# Altium integrated library Diode - Rectifier.IntLib: 777 symbols (part 9 of 12)
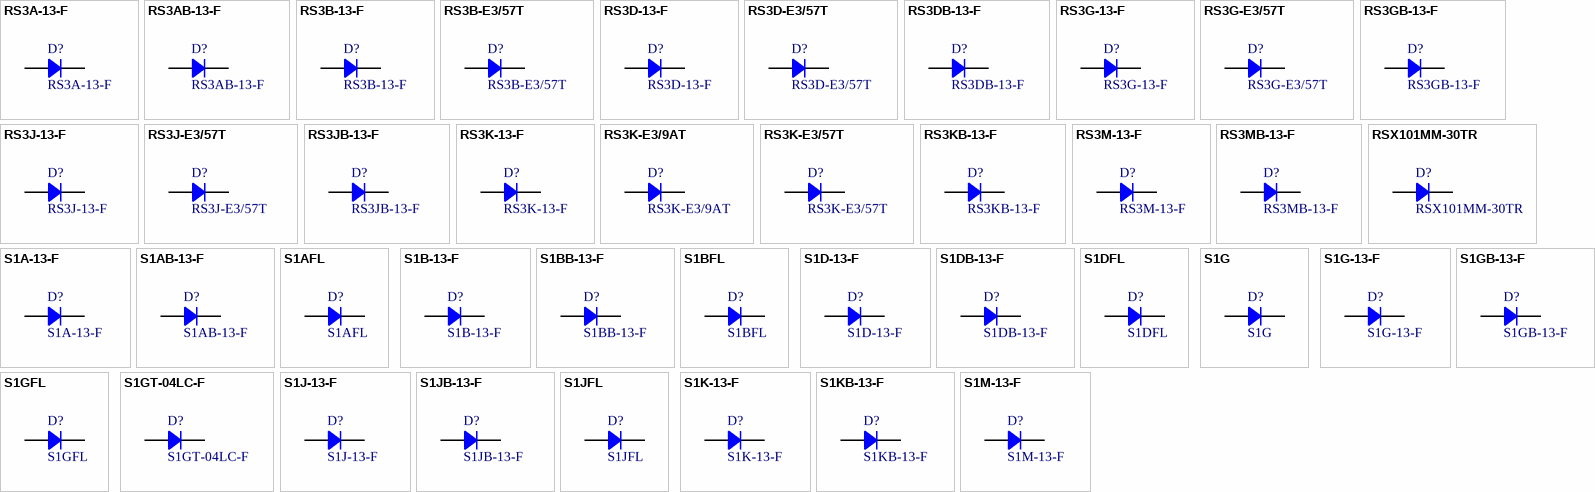
[diagram p27: symbols RS3A-13-F to S1M-13-F]

## S1K-13-F
designator D?
DIODE GEN PURP 800V 1A SMA; Manufacturer: Diodes Incorporated; Type: Standard; Current Reverse Leakage @ Vr: 5uA @ 800V; Reverse Recovery Time (trr): 3us; Voltage Forward (Vf): 1.1V @ 1A; Part Number: S1K-13-F; PartId: 16346; Supplier 1: Digi-Key; Supplier Part Number 1: S1K-FDITR-ND; ComponentLink1Description: Datasheet; ComponentLink1URL: http://www.diodes.com/_files/datasheets/ds16003.pdf; ComponentLink2Description: Digi-Key Listing; ComponentLink2URL: https://www.digikey.com/product-detail/en/diodes-incorporated/S1K-13-F/S1K-FDITR-ND/814415; Junction Operating Temperature: -65C ~ 150C; Price: 0.056; Device Package: DO-214AC, SMA; Voltage DC Reverse (Vr): 800V; Current Rectified: 1A
footprint DO214AC SMA
pins: 1, 2

## S1KB-13-F
designator D?
DIODE GEN PURP 800V 1A SMB; Manufacturer: Diodes Incorporated; Type: Standard; Current Reverse Leakage @ Vr: 5uA @ 800V; Reverse Recovery Time (trr): 3us; Voltage Forward (Vf): 1.1V @ 1A; Part Number: S1KB-13-F; PartId: 16273; Supplier 1: Digi-Key; Supplier Part Number 1: S1KB-FDITR-ND; ComponentLink1Description: Datasheet; ComponentLink1URL: http://www.diodes.com/_files/datasheets/ds16003.pdf; ComponentLink2Description: Digi-Key Listing; ComponentLink2URL: https://www.digikey.com/product-detail/en/diodes-incorporated/S1KB-13-F/S1KB-FDITR-ND/749978; Junction Operating Temperature: -65C ~ 150C; Price: 0.08; Device Package: DO-214AA, SMB; Voltage DC Reverse (Vr): 800V; Current Rectified: 1A
footprint DO214AA SMB
pins: 1, 2

## S1M-13-F
designator D?
DIODE GEN PURP 1KV 1A SMA; Manufacturer: Diodes Incorporated; Type: Standard; Current Reverse Leakage @ Vr: 5uA @ 1000V; Reverse Recovery Time (trr): 3us; Voltage DC Reverse (Vr): 1000V (1kV); Voltage Forward (Vf): 1.1V @ 1A; Part Number: S1M-13-F; PartId: 16315; Supplier 1: Digi-Key; Supplier Part Number 1: S1M-FDITR-ND; ComponentLink1Description: Datasheet; ComponentLink1URL: http://www.diodes.com/_files/datasheets/ds16003.pdf; ComponentLink2Description: Digi-Key Listing; ComponentLink2URL: https://www.digikey.com/product-detail/en/diodes-incorporated/S1M-13-F/S1M-FDITR-ND/804883; Junction Operating Temperature: -65C ~ 150C; Price: 0.036; Device Package: DO-214AC, SMA; Current Rectified: 1A
footprint DO214AC SMA
pins: 1, 2

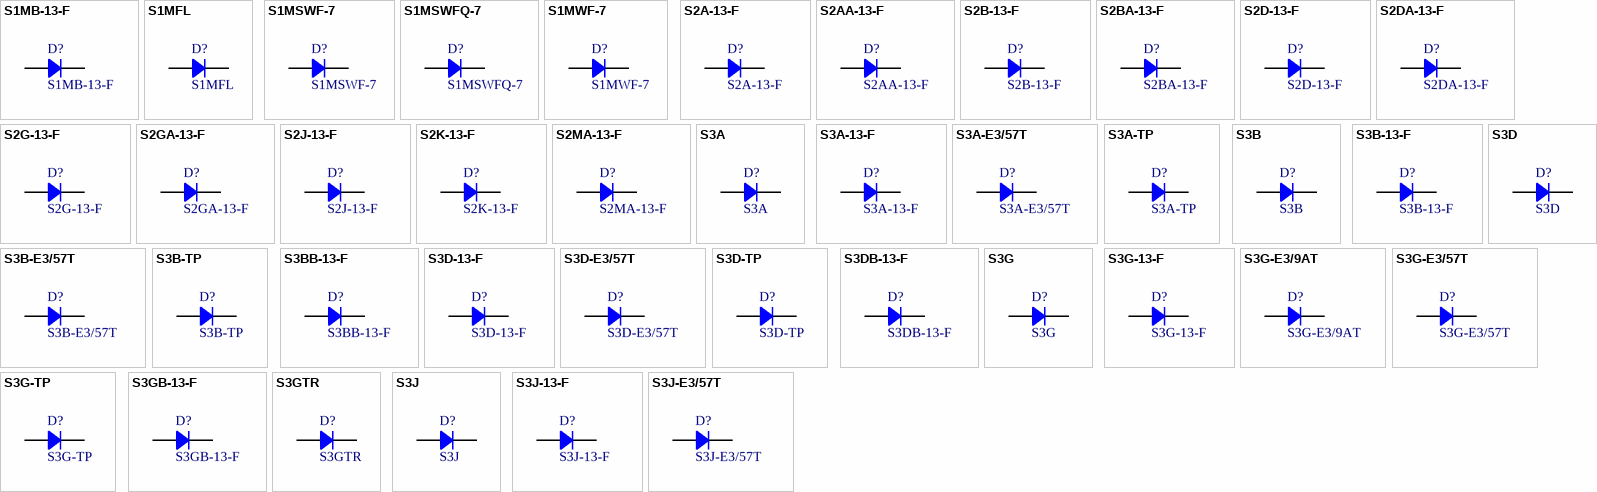
[diagram p13: symbols S1MB-13-F to S3J-E3/57T]

## S1MB-13-F
designator D?
DIODE GEN PURP 1KV 1A SMB; Manufacturer: Diodes Incorporated; Type: Standard; Current Reverse Leakage @ Vr: 5uA @ 1000V; Reverse Recovery Time (trr): 3us; Voltage DC Reverse (Vr): 1000V (1kV); Voltage Forward (Vf): 1.1V @ 1A; Part Number: S1MB-13-F; PartId: 16239; Supplier 1: Digi-Key; Supplier Part Number 1: S1MB-FDITR-ND; ComponentLink1Description: Datasheet; ComponentLink1URL: http://www.diodes.com/_files/datasheets/ds16003.pdf; ComponentLink2Description: Digi-Key Listing; ComponentLink2URL: https://www.digikey.com/product-detail/en/diodes-incorporated/S1MB-13-F/S1MB-FDITR-ND/765421; Junction Operating Temperature: -65C ~ 150C; Price: 0.066; Device Package: DO-214AA, SMB; Current Rectified: 1A
footprint DO214AA SMB
pins: 1, 2

## S1MFL
designator D?
DIODE GP 1000V 1A SOD123F; Manufacturer: Fairchild/ON Semiconductor; Type: Standard; Current Reverse Leakage @ Vr: 1uA @ 1000V; Reverse Recovery Time (trr): 2us; Voltage DC Reverse (Vr): 1000V (1kV); Voltage Forward (Vf): 1.1V @ 1A; Part Number: S1MFL; PartId: 29266; Supplier 1: Digi-Key; Supplier Part Number 1: S1MFLCT-ND; ComponentLink1Description: Datasheet; ComponentLink1URL: https://www.fairchildsemi.com/datasheets/S1/S1AFL.pdf; ComponentLink2Description: Digi-Key Listing; ComponentLink2URL: https://www.digikey.com/product-detail/en/fairchild-on-semiconductor/S1MFL/S1MFLCT-ND/5305090; Junction Operating Temperature: -50C ~ 150C; Price: 0.38; Device Package: SOD-123F; Current Rectified: 1A
footprint SOD123F
pins: 1, 2

## S1MSWF-7
designator D?
DIODE RECT STD 1000V 1A SOD123F; Manufacturer: Diodes Incorporated; Type: Standard; Current Reverse Leakage @ Vr: 10uA @ 1000V; Reverse Recovery Time (trr): 1us; Voltage DC Reverse (Vr): 1000V (1kV); Voltage Forward (Vf): 1.1V @ 1A; Part Number: S1MSWF-7; PartId: 29324; Supplier 1: Digi-Key; Supplier Part Number 1: S1MSWF-7DICT-ND; ComponentLink1Description: Datasheet; ComponentLink1URL: http://www.diodes.com/_files/datasheets/S1MSWF.pdf; ComponentLink2Description: Digi-Key Listing; ComponentLink2URL: https://www.digikey.com/product-detail/en/diodes-incorporated/S1MSWF-7/S1MSWF-7DICT-ND/5731843; Junction Operating Temperature: -55C ~ 150C; Price: 0.38; Device Package: SOD-123F; Current Rectified: 1A
footprint SOD123F
pins: 1, 2

## S1MSWFQ-7
designator D?
DIODE RECT STD 1000V 1A SOD123F; Manufacturer: Diodes Incorporated; Type: Standard; Current Reverse Leakage @ Vr: 10uA @ 1000V; Reverse Recovery Time (trr): 1us; Voltage DC Reverse (Vr): 1000V (1kV); Voltage Forward (Vf): 1.1V @ 1A; Part Number: S1MSWFQ-7; PartId: 29240; Supplier 1: Digi-Key; Supplier Part Number 1: S1MSWFQ-7DICT-ND; ComponentLink1Description: Datasheet; ComponentLink2Description: Digi-Key Listing; ComponentLink2URL: https://www.digikey.com/product-detail/en/diodes-incorporated/S1MSWFQ-7/S1MSWFQ-7DICT-ND/5731844; Junction Operating Temperature: -55C ~ 150C; Price: 0.39; Device Package: SOD-123F; Current Rectified: 1A
footprint SOD123F
pins: 1, 2

## S1MWF-7
designator D?
RECT GP 1000V 1A SOD123F; Manufacturer: Diodes Incorporated; Type: Standard; Current Reverse Leakage @ Vr: 5uA @ 1000V; Reverse Recovery Time (trr): 3us; Voltage DC Reverse (Vr): 1000V (1kV); Voltage Forward (Vf): 1.1V @ 1A; Part Number: S1MWF-7; PartId: 29260; Supplier 1: Digi-Key; Supplier Part Number 1: S1MWF-7DICT-ND; ComponentLink1Description: Datasheet; ComponentLink1URL: http://diodes.com/_files/datasheets/S1MWF.pdf; ComponentLink2Description: Digi-Key Listing; ComponentLink2URL: https://www.digikey.com/product-detail/en/diodes-incorporated/S1MWF-7/S1MWF-7DICT-ND/5223254; Junction Operating Temperature: -55C ~ 150C; Price: 0.36; Device Package: SOD-123F; Current Rectified: 1A
footprint SOD123F
pins: 1, 2

## S2A-13-F
designator D?
DIODE GEN PURP 50V 1.5A SMB; Manufacturer: Diodes Incorporated; Type: Standard; Current Reverse Leakage @ Vr: 5uA @ 50V; Voltage Forward (Vf): 1.15V @ 1.5A; Part Number: S2A-13-F; PartId: 16270; Supplier 1: Digi-Key; Supplier Part Number 1: S2A-FDITR-ND; ComponentLink1Description: Datasheet; ComponentLink1URL: http://www.diodes.com/_files/datasheets/ds16004.pdf; ComponentLink2Description: Digi-Key Listing; ComponentLink2URL: https://www.digikey.com/product-detail/en/diodes-incorporated/S2A-13-F/S2A-FDITR-ND/814429; Junction Operating Temperature: -65C ~ 150C; Price: 0.068; Device Package: DO-214AA, SMB; Voltage DC Reverse (Vr): 50V; Current Rectified: 1.5A
footprint DO214AA SMB
pins: 1, 2

## S2AA-13-F
designator D?
DIODE GEN PURP 50V 1.5A SMA; Manufacturer: Diodes Incorporated; Type: Standard; Current Reverse Leakage @ Vr: 5uA @ 50V; Voltage Forward (Vf): 1.15V @ 1.5A; Part Number: S2AA-13-F; PartId: 16349; Supplier 1: Digi-Key; Supplier Part Number 1: S2AA-FDITR-ND; ComponentLink1Description: Datasheet; ComponentLink1URL: http://www.diodes.com/_files/datasheets/ds16004.pdf; ComponentLink2Description: Digi-Key Listing; ComponentLink2URL: https://www.digikey.com/product-detail/en/diodes-incorporated/S2AA-13-F/S2AA-FDITR-ND/814425; Junction Operating Temperature: -65C ~ 150C; Price: 0.072; Device Package: DO-214AC, SMA; Voltage DC Reverse (Vr): 50V; Current Rectified: 1.5A
footprint DO214AC SMA
pins: 1, 2

## S2B-13-F
designator D?
DIODE GEN PURP 100V 1.5A SMB; Manufacturer: Diodes Incorporated; Type: Standard; Current Reverse Leakage @ Vr: 5uA @ 100V; Voltage Forward (Vf): 1.15V @ 1.5A; Part Number: S2B-13-F; PartId: 16271; Supplier 1: Digi-Key; Supplier Part Number 1: S2B-FDITR-ND; ComponentLink1Description: Datasheet; ComponentLink1URL: http://www.diodes.com/_files/datasheets/ds16004.pdf; ComponentLink2Description: Digi-Key Listing; ComponentLink2URL: https://www.digikey.com/product-detail/en/diodes-incorporated/S2B-13-F/S2B-FDITR-ND/749979; Junction Operating Temperature: -65C ~ 150C; Price: 0.08; Device Package: DO-214AA, SMB; Voltage DC Reverse (Vr): 100V; Current Rectified: 1.5A
footprint DO214AA SMB
pins: 1, 2

## S2BA-13-F
designator D?
DIODE GEN PURP 100V 1.5A SMA; Manufacturer: Diodes Incorporated; Type: Standard; Current Reverse Leakage @ Vr: 5uA @ 100V; Voltage Forward (Vf): 1.15V @ 1.5A; Part Number: S2BA-13-F; PartId: 16352; Supplier 1: Digi-Key; Supplier Part Number 1: S2BA-FDITR-ND; ComponentLink1Description: Datasheet; ComponentLink1URL: http://www.diodes.com/_files/datasheets/ds16004.pdf; ComponentLink2Description: Digi-Key Listing; ComponentLink2URL: https://www.digikey.com/product-detail/en/diodes-incorporated/S2BA-13-F/S2BA-FDITR-ND/814428; Junction Operating Temperature: -65C ~ 150C; Price: 0.085; Device Package: DO-214AC, SMA; Voltage DC Reverse (Vr): 100V; Current Rectified: 1.5A
footprint DO214AC SMA
pins: 1, 2

## S2D-13-F
designator D?
DIODE GEN PURP 200V 1.5A SMB; Manufacturer: Diodes Incorporated; Type: Standard; Current Reverse Leakage @ Vr: 5uA @ 200V; Voltage Forward (Vf): 1.15V @ 1.5A; Part Number: S2D-13-F; PartId: 16272; Supplier 1: Digi-Key; Supplier Part Number 1: S2D-FDITR-ND; ComponentLink1Description: Datasheet; ComponentLink1URL: http://www.diodes.com/_files/datasheets/ds16004.pdf; ComponentLink2Description: Digi-Key Listing; ComponentLink2URL: https://www.digikey.com/product-detail/en/diodes-incorporated/S2D-13-F/S2D-FDITR-ND/814427; Junction Operating Temperature: -65C ~ 150C; Price: 0.08; Device Package: DO-214AA, SMB; Voltage DC Reverse (Vr): 200V; Current Rectified: 1.5A
footprint DO214AA SMB
pins: 1, 2

## S2DA-13-F
designator D?
DIODE GEN PURP 200V 1.5A SMA; Manufacturer: Diodes Incorporated; Type: Standard; Current Reverse Leakage @ Vr: 5uA @ 200V; Voltage Forward (Vf): 1.15V @ 1.5A; Part Number: S2DA-13-F; PartId: 16362; Supplier 1: Digi-Key; Supplier Part Number 1: S2DA-FDITR-ND; ComponentLink1Description: Datasheet; ComponentLink1URL: http://www.diodes.com/_files/datasheets/ds16004.pdf; ComponentLink2Description: Digi-Key Listing; ComponentLink2URL: https://www.digikey.com/product-detail/en/diodes-incorporated/S2DA-13-F/S2DA-FDITR-ND/768875; Junction Operating Temperature: -65C ~ 150C; Price: 0.085; Device Package: DO-214AC, SMA; Voltage DC Reverse (Vr): 200V; Current Rectified: 1.5A
footprint DO214AC SMA
pins: 1, 2

## S2G-13-F
designator D?
DIODE GEN PURP 400V 1.5A SMB; Manufacturer: Diodes Incorporated; Type: Standard; Current Reverse Leakage @ Vr: 5uA @ 400V; Voltage Forward (Vf): 1.15V @ 1.5A; Part Number: S2G-13-F; PartId: 16268; Supplier 1: Digi-Key; Supplier Part Number 1: S2G-FDITR-ND; ComponentLink1Description: Datasheet; ComponentLink1URL: http://www.diodes.com/_files/datasheets/ds16004.pdf; ComponentLink2Description: Digi-Key Listing; ComponentLink2URL: https://www.digikey.com/product-detail/en/diodes-incorporated/S2G-13-F/S2G-FDITR-ND/814423; Junction Operating Temperature: -65C ~ 150C; Price: 0.06; Device Package: DO-214AA, SMB; Voltage DC Reverse (Vr): 400V; Current Rectified: 1.5A
footprint DO214AA SMB
pins: 1, 2

## S2GA-13-F
designator D?
DIODE GEN PURP 400V 1.5A SMA; Manufacturer: Diodes Incorporated; Type: Standard; Current Reverse Leakage @ Vr: 5uA @ 400V; Voltage Forward (Vf): 1.15V @ 1.5A; Part Number: S2GA-13-F; PartId: 16353; Supplier 1: Digi-Key; Supplier Part Number 1: S2GA-FDITR-ND; ComponentLink1Description: Datasheet; ComponentLink1URL: http://www.diodes.com/_files/datasheets/ds16004.pdf; ComponentLink2Description: Digi-Key Listing; ComponentLink2URL: https://www.digikey.com/product-detail/en/diodes-incorporated/S2GA-13-F/S2GA-FDITR-ND/814426; Junction Operating Temperature: -65C ~ 150C; Price: 0.085; Device Package: DO-214AC, SMA; Voltage DC Reverse (Vr): 400V; Current Rectified: 1.5A
footprint DO214AC SMA
pins: 1, 2

## S2J-13-F
designator D?
DIODE GEN PURP 600V 1.5A SMB; Manufacturer: Diodes Incorporated; Type: Standard; Current Reverse Leakage @ Vr: 5uA @ 600V; Voltage Forward (Vf): 1.15V @ 1.5A; Part Number: S2J-13-F; PartId: 16298; Supplier 1: Digi-Key; Supplier Part Number 1: S2J-FDITR-ND; ComponentLink1Description: Datasheet; ComponentLink1URL: http://www.diodes.com/_files/datasheets/ds16004.pdf; ComponentLink2Description: Digi-Key Listing; ComponentLink2URL: https://www.digikey.com/product-detail/en/diodes-incorporated/S2J-13-F/S2J-FDITR-ND/814418; Junction Operating Temperature: -65C ~ 150C; Price: 0.08; Device Package: DO-214AA, SMB; Voltage DC Reverse (Vr): 600V; Current Rectified: 1.5A
footprint DO214AA SMB
pins: 1, 2

## S2K-13-F
designator D?
DIODE GEN PURP 800V 1.5A SMB; Manufacturer: Diodes Incorporated; Type: Surface Mount; Current Reverse Leakage @ Vr: 5uA @ 800V; Voltage Forward (Vf): 1.15V @ 1.5A; Part Number: S2K-13-F; PartId: 7124; Supplier 1: Digi-Key; Supplier Part Number 1: S2K-FDITR-ND; ComponentLink1Description: Datasheet; ComponentLink1URL: http://www.diodes.com/_files/datasheets/ds16004.pdf; ComponentLink2Description: Digi-Key Listing; ComponentLink2URL: http://www.digikey.ca/product-detail/en/S2K-13-F/S2K-FDITR-ND/814421; Junction Operating Temperature: -65C ~ 150C; Price: 0.086; Device Package: DO-214AA, SMB; Reverse Recovery Time (trr): -; Voltage DC Reverse (Vr): 800V; Current Rectified: 1.5A
footprint DO214AA SMB
pins: 1, 2

## S2MA-13-F
designator D?
DIODE GEN PURP 1KV 1.5A SMA; Manufacturer: Diodes Incorporated; Type: Standard; Current Reverse Leakage @ Vr: 5uA @ 1000V; Voltage DC Reverse (Vr): 1000V (1kV); Voltage Forward (Vf): 1.15V @ 1.5A; Part Number: S2MA-13-F; PartId: 16348; Supplier 1: Digi-Key; Supplier Part Number 1: S2MA-FDITR-ND; ComponentLink1Description: Datasheet; ComponentLink1URL: http://www.diodes.com/_files/datasheets/ds16004.pdf; ComponentLink2Description: Digi-Key Listing; ComponentLink2URL: https://www.digikey.com/product-detail/en/diodes-incorporated/S2MA-13-F/S2MA-FDITR-ND/814420; Junction Operating Temperature: -65C ~ 150C; Price: 0.072; Device Package: DO-214AC, SMA; Current Rectified: 1.5A
footprint DO214AC SMA
pins: 1, 2

## S3A
designator D?
DIODE GEN PURP 50V 3A SMC; Manufacturer: Fairchild/ON Semiconductor; Type: Standard; Current Reverse Leakage @ Vr: 5uA @ 50V; Reverse Recovery Time (trr): 2.5us; Voltage Forward (Vf): 1.2V @ 3A; Part Number: S3A; PartId: 27716; Supplier 1: Digi-Key; Supplier Part Number 1: S3AFSCT-ND; ComponentLink1Description: Datasheet; ComponentLink1URL: https://www.fairchildsemi.com/datasheets/S3/S3A.pdf; ComponentLink2Description: Digi-Key Listing; ComponentLink2URL: https://www.digikey.com/product-detail/en/fairchild-on-semiconductor/S3A/S3AFSCT-ND/2053162; Junction Operating Temperature: -55C ~ 150C; Price: 0.37; Device Package: DO-214AB, SMC; Voltage DC Reverse (Vr): 50V; Current Rectified: 3A
footprint ST DO214AB SMC
pins: 1, 2

## S3A-13-F
designator D?
DIODE GEN PURP 50V 3A SMC; Manufacturer: Diodes Incorporated; Type: Standard; Current Reverse Leakage @ Vr: 10uA @ 50V; Voltage Forward (Vf): 1.15V @ 3A; Part Number: S3A-13-F; PartId: 16214; Supplier 1: Digi-Key; Supplier Part Number 1: S3A-FDITR-ND; ComponentLink1Description: Datasheet; ComponentLink1URL: http://www.diodes.com/_files/datasheets/ds16005.pdf; ComponentLink2Description: Digi-Key Listing; ComponentLink2URL: https://www.digikey.com/product-detail/en/diodes-incorporated/S3A-13-F/S3A-FDITR-ND/725028; Junction Operating Temperature: -65C ~ 150C; Price: 0.132; Device Package: DO-214AB, SMC; Voltage DC Reverse (Vr): 50V; Current Rectified: 3A
footprint DO214AB SMC
pins: 1, 2

## S3A-E3/57T
designator D?
DIODE GEN PURP 50V 3A DO214AB; Manufacturer: Vishay Semiconductor Diodes Division; Type: Standard; Current Reverse Leakage @ Vr: 10uA @ 50V; Reverse Recovery Time (trr): 2.5us; Voltage Forward (Vf): 1.15V @ 2.5A; Part Number: S3A-E3/57T; PartId: 27897; Supplier 1: Digi-Key; Supplier Part Number 1: S3A-E3/57TGICT-ND; ComponentLink1Description: Datasheet; ComponentLink1URL: http://www.vishay.com/docs/88713/s3a.pdf; ComponentLink2Description: Digi-Key Listing; ComponentLink2URL: https://www.digikey.com/product-detail/en/vishay-semiconductor-diodes-division/S3A-E3-57T/S3A-E3-57TGICT-ND/3025914; Junction Operating Temperature: -55C ~ 150C; Price: 0.41; Device Package: DO-214AB, SMC; Voltage DC Reverse (Vr): 50V; Current Rectified: 3A
footprint ST DO214AB SMC
pins: 1, 2

## S3A-TP
designator D?
DIODE GEN PURP 50V 3A DO214AB; Manufacturer: Micro Commercial Co; Type: Standard; Current Reverse Leakage @ Vr: 10uA @ 50V; Voltage Forward (Vf): 1.2V @ 3A; Part Number: S3A-TP; PartId: 27837; Supplier 1: Digi-Key; Supplier Part Number 1: S3A-TPMSCT-ND; ComponentLink1Description: Datasheet; ComponentLink1URL: http://www.mccsemi.com/up_pdf/S3A-S3M(DO-214AB).PDF; ComponentLink2Description: Digi-Key Listing; ComponentLink2URL: https://www.digikey.com/product-detail/en/micro-commercial-co/S3A-TP/S3A-TPMSCT-ND/773718; Junction Operating Temperature: -55C ~ 150C; Price: 0.52; Device Package: DO-214AB, SMC; Voltage DC Reverse (Vr): 50V; Current Rectified: 3A
footprint ST DO214AB SMC
pins: 1, 2

## S3B
designator D?
DIODE GEN PURP 100V 3A SMC; Manufacturer: Fairchild/ON Semiconductor; Type: Standard; Current Reverse Leakage @ Vr: 5uA @ 100V; Reverse Recovery Time (trr): 2.5us; Voltage Forward (Vf): 1.2V @ 3A; Part Number: S3B; PartId: 27715; Supplier 1: Digi-Key; Supplier Part Number 1: S3BFSCT-ND; ComponentLink1Description: Datasheet; ComponentLink1URL: https://www.fairchildsemi.com/datasheets/S3/S3A.pdf; ComponentLink2Description: Digi-Key Listing; ComponentLink2URL: https://www.digikey.com/product-detail/en/fairchild-on-semiconductor/S3B/S3BFSCT-ND/1626270; Junction Operating Temperature: -55C ~ 150C; Price: 0.37; Device Package: DO-214AB, SMC; Voltage DC Reverse (Vr): 100V; Current Rectified: 3A
footprint ST DO214AB SMC
pins: 1, 2

## S3B-13-F
designator D?
DIODE GEN PURP 100V 3A SMC; Manufacturer: Diodes Incorporated; Type: Standard; Current Reverse Leakage @ Vr: 10uA @ 100V; Voltage Forward (Vf): 1.15V @ 3A; Part Number: S3B-13-F; PartId: 27681; Supplier 1: Digi-Key; Supplier Part Number 1: S3B-FDICT-ND; ComponentLink1Description: Datasheet; ComponentLink1URL: http://www.diodes.com/_files/datasheets/ds16005.pdf; ComponentLink2Description: Digi-Key Listing; ComponentLink2URL: https://www.digikey.com/product-detail/en/diodes-incorporated/S3B-13-F/S3B-FDICT-ND/750035; Junction Operating Temperature: -65C ~ 150C; Price: 0.48; Device Package: DO-214AB, SMC; Voltage DC Reverse (Vr): 100V; Current Rectified: 3A
footprint ST DO214AB SMC
pins: 1, 2

## S3B-E3/57T
designator D?
DIODE GEN PURP 100V 3A DO214AB; Manufacturer: Vishay Semiconductor Diodes Division; Type: Standard; Current Reverse Leakage @ Vr: 10uA @ 100V; Reverse Recovery Time (trr): 2.5us; Voltage Forward (Vf): 1.15V @ 2.5A; Part Number: S3B-E3/57T; PartId: 27772; Supplier 1: Digi-Key; Supplier Part Number 1: S3B-E3/57TGICT-ND; ComponentLink1Description: Datasheet; ComponentLink1URL: http://www.vishay.com/docs/88713/s3a.pdf; ComponentLink2Description: Digi-Key Listing; ComponentLink2URL: https://www.digikey.com/product-detail/en/vishay-semiconductor-diodes-division/S3B-E3-57T/S3B-E3-57TGICT-ND/2356596; Junction Operating Temperature: -55C ~ 150C; Price: 0.41; Device Package: DO-214AB, SMC; Voltage DC Reverse (Vr): 100V; Current Rectified: 3A
footprint ST DO214AB SMC
pins: 1, 2

## S3B-TP
designator D?
DIODE GEN PURP 100V 3A DO214AB; Manufacturer: Micro Commercial Co; Type: Standard; Current Reverse Leakage @ Vr: 10uA @ 100V; Voltage Forward (Vf): 1.2V @ 3A; Part Number: S3B-TP; PartId: 27764; Supplier 1: Digi-Key; Supplier Part Number 1: S3B-TPMSCT-ND; ComponentLink1Description: Datasheet; ComponentLink1URL: http://www.mccsemi.com/up_pdf/S3A-S3M(DO-214AB).PDF; ComponentLink2Description: Digi-Key Listing; ComponentLink2URL: https://www.digikey.com/product-detail/en/micro-commercial-co/S3B-TP/S3B-TPMSCT-ND/773719; Junction Operating Temperature: -55C ~ 150C; Price: 0.52; Device Package: DO-214AB, SMC; Voltage DC Reverse (Vr): 100V; Current Rectified: 3A
footprint ST DO214AB SMC
pins: 1, 2

## S3BB-13-F
designator D?
DIODE GEN PURP 100V 3A SMB; Manufacturer: Diodes Incorporated; Type: Standard; Current Reverse Leakage @ Vr: 10uA @ 100V; Voltage Forward (Vf): 1.15V @ 3A; Part Number: S3BB-13-F; PartId: 16256; Supplier 1: Digi-Key; Supplier Part Number 1: S3BB-FDITR-ND; ComponentLink1Description: Datasheet; ComponentLink1URL: http://www.diodes.com/_files/datasheets/ds16005.pdf; ComponentLink2Description: Digi-Key Listing; ComponentLink2URL: https://www.digikey.com/product-detail/en/diodes-incorporated/S3BB-13-F/S3BB-FDITR-ND/749982; Junction Operating Temperature: -65C ~ 150C; Price: 0.1395; Device Package: DO-214AA, SMB; Voltage DC Reverse (Vr): 100V; Current Rectified: 3A
footprint DO214AA SMB
pins: 1, 2

## S3D
designator D?
DIODE GEN PURP 200V 3A SMC; Manufacturer: Fairchild/ON Semiconductor; Type: Standard; Current Reverse Leakage @ Vr: 5uA @ 200V; Reverse Recovery Time (trr): 2.5us; Voltage Forward (Vf): 1.2V @ 3A; Part Number: S3D; PartId: 27713; Supplier 1: Digi-Key; Supplier Part Number 1: S3DFSCT-ND; ComponentLink1Description: Datasheet; ComponentLink1URL: https://www.fairchildsemi.com/datasheets/S3/S3D.pdf; ComponentLink2Description: Digi-Key Listing; ComponentLink2URL: https://www.digikey.com/product-detail/en/fairchild-on-semiconductor/S3D/S3DFSCT-ND/2094443; Junction Operating Temperature: -55C ~ 150C; Price: 0.37; Device Package: DO-214AB, SMC; Voltage DC Reverse (Vr): 200V; Current Rectified: 3A
footprint ST DO214AB SMC
pins: 1, 2

## S3D-13-F
designator D?
DIODE GEN PURP 200V 3A SMC; Manufacturer: Diodes Incorporated; Type: Standard; Current Reverse Leakage @ Vr: 10uA @ 200V; Voltage Forward (Vf): 1.15V @ 3A; Part Number: S3D-13-F; PartId: 16223; Supplier 1: Digi-Key; Supplier Part Number 1: S3D-FDITR-ND; ComponentLink1Description: Datasheet; ComponentLink1URL: http://www.diodes.com/_files/datasheets/ds16005.pdf; ComponentLink2Description: Digi-Key Listing; ComponentLink2URL: https://www.digikey.com/product-detail/en/diodes-incorporated/S3D-13-F/S3D-FDITR-ND/768792; Junction Operating Temperature: -65C ~ 150C; Price: 0.186; Device Package: DO-214AB, SMC; Voltage DC Reverse (Vr): 200V; Current Rectified: 3A
footprint DO214AB SMC
pins: 1, 2

## S3D-E3/57T
designator D?
DIODE GEN PURP 200V 3A DO214AB; Manufacturer: Vishay Semiconductor Diodes Division; Type: Standard; Current Reverse Leakage @ Vr: 10uA @ 200V; Reverse Recovery Time (trr): 2.5us; Voltage Forward (Vf): 1.15V @ 2.5A; Part Number: S3D-E3/57T; PartId: 27771; Supplier 1: Digi-Key; Supplier Part Number 1: S3D-E3/57TGICT-ND; ComponentLink1Description: Datasheet; ComponentLink1URL: http://www.vishay.com/docs/88713/s3a.pdf; ComponentLink2Description: Digi-Key Listing; ComponentLink2URL: https://www.digikey.com/product-detail/en/vishay-semiconductor-diodes-division/S3D-E3-57T/S3D-E3-57TGICT-ND/1091608; Junction Operating Temperature: -55C ~ 150C; Price: 0.41; Device Package: DO-214AB, SMC; Voltage DC Reverse (Vr): 200V; Current Rectified: 3A
footprint ST DO214AB SMC
pins: 1, 2

## S3D-TP
designator D?
DIODE GEN PURP 200V 3A DO214AB; Manufacturer: Micro Commercial Co; Type: Standard; Current Reverse Leakage @ Vr: 10uA @ 200V; Voltage Forward (Vf): 1.2V @ 3A; Part Number: S3D-TP; PartId: 27792; Supplier 1: Digi-Key; Supplier Part Number 1: S3D-TPMSCT-ND; ComponentLink1Description: Datasheet; ComponentLink1URL: http://www.mccsemi.com/up_pdf/S3A-S3M(DO-214AB).PDF; ComponentLink2Description: Digi-Key Listing; ComponentLink2URL: https://www.digikey.com/product-detail/en/micro-commercial-co/S3D-TP/S3D-TPMSCT-ND/773720; Junction Operating Temperature: -55C ~ 150C; Price: 0.52; Device Package: DO-214AB, SMC; Voltage DC Reverse (Vr): 200V; Current Rectified: 3A
footprint ST DO214AB SMC
pins: 1, 2

## S3DB-13-F
designator D?
DIODE GEN PURP 200V 3A SMB; Manufacturer: Diodes Incorporated; Type: Standard; Current Reverse Leakage @ Vr: 10uA @ 200V; Voltage Forward (Vf): 1.15V @ 3A; Part Number: S3DB-13-F; PartId: 16285; Supplier 1: Digi-Key; Supplier Part Number 1: S3DB-FDITR-ND; ComponentLink1Description: Datasheet; ComponentLink1URL: http://www.diodes.com/_files/datasheets/ds16005.pdf; ComponentLink2Description: Digi-Key Listing; ComponentLink2URL: https://www.digikey.com/product-detail/en/diodes-incorporated/S3DB-13-F/S3DB-FDITR-ND/749983; Junction Operating Temperature: -65C ~ 150C; Price: 0.132; Device Package: DO-214AA, SMB; Voltage DC Reverse (Vr): 200V; Current Rectified: 3A
footprint DO214AA SMB
pins: 1, 2

## S3G
designator D?
DIODE GEN PURP 400V 3A SMC; Manufacturer: Fairchild/ON Semiconductor; Type: Standard; Current Reverse Leakage @ Vr: 5uA @ 400V; Reverse Recovery Time (trr): 2.5us; Voltage Forward (Vf): 1.2V @ 3A; Part Number: S3G; PartId: 27717; Supplier 1: Digi-Key; Supplier Part Number 1: S3GFSCT-ND; ComponentLink1Description: Datasheet; ComponentLink1URL: https://www.fairchildsemi.com/datasheets/S3/S3A.pdf; ComponentLink2Description: Digi-Key Listing; ComponentLink2URL: https://www.digikey.com/product-detail/en/fairchild-on-semiconductor/S3G/S3GFSCT-ND/2053163; Junction Operating Temperature: -55C ~ 150C; Price: 0.35; Device Package: DO-214AB, SMC; Voltage DC Reverse (Vr): 400V; Current Rectified: 3A
footprint ST DO214AB SMC
pins: 1, 2

## S3G-13-F
designator D?
DIODE GEN PURP 400V 3A SMC; Manufacturer: Diodes Incorporated; Type: Surface Mount; Current Reverse Leakage @ Vr: 10uA @ 400V; Voltage Forward (Vf): 1.15V @ 3A; Part Number: S3G-13-F; PartId: 7161; Supplier 1: Digi-Key; Supplier Part Number 1: S3G-FDITR-ND; ComponentLink1Description: Datasheet; ComponentLink1URL: http://www.diodes.com/_files/datasheets/ds16005.pdf; ComponentLink2Description: Digi-Key Listing; ComponentLink2URL: http://www.digikey.ca/product-detail/en/S3G-13-F/S3G-FDITR-ND/814579; Junction Operating Temperature: -65C ~ 150C; Price: 0.142; Device Package: DO-214AB, SMC; Reverse Recovery Time (trr): -; Voltage DC Reverse (Vr): 400V; Current Rectified: 3A
footprint DO214AB SMC
pins: 1, 2

## S3G-E3/9AT
designator D?
DIODE GEN PURP 400V 3A DO214AB; Manufacturer: Vishay Semiconductor Diodes Division; Type: Standard; Current Reverse Leakage @ Vr: 10uA @ 400V; Reverse Recovery Time (trr): 2.5us; Voltage Forward (Vf): 1.15V @ 2.5A; Part Number: S3G-E3/9AT; PartId: 27807; Supplier 1: Digi-Key; Supplier Part Number 1: S3G-E3/9ATGICT-ND; ComponentLink1Description: Datasheet; ComponentLink1URL: http://www.vishay.com/docs/88713/s3a.pdf; ComponentLink2Description: Digi-Key Listing; ComponentLink2URL: https://www.digikey.com/product-detail/en/vishay-semiconductor-diodes-division/S3G-E3-9AT/S3G-E3-9ATGICT-ND/3711852; Junction Operating Temperature: -55C ~ 150C; Price: 0.38; Device Package: DO-214AB, SMC; Voltage DC Reverse (Vr): 400V; Current Rectified: 3A
footprint ST DO214AB SMC
pins: 1, 2

## S3G-E3/57T
designator D?
DIODE GEN PURP 400V 3A DO214AB; Manufacturer: Vishay Semiconductor Diodes Division; Type: Standard; Current Reverse Leakage @ Vr: 10uA @ 400V; Reverse Recovery Time (trr): 2.5us; Voltage Forward (Vf): 1.15V @ 2.5A; Part Number: S3G-E3/57T; PartId: 27726; Supplier 1: Digi-Key; Supplier Part Number 1: S3G-E3/57TGICT-ND; ComponentLink1Description: Datasheet; ComponentLink1URL: http://www.vishay.com/docs/88713/s3a.pdf; ComponentLink2Description: Digi-Key Listing; ComponentLink2URL: https://www.digikey.com/product-detail/en/vishay-semiconductor-diodes-division/S3G-E3-57T/S3G-E3-57TGICT-ND/1091609; Junction Operating Temperature: -55C ~ 150C; Price: 0.38; Device Package: DO-214AB, SMC; Voltage DC Reverse (Vr): 400V; Current Rectified: 3A
footprint ST DO214AB SMC
pins: 1, 2

## S3G-TP
designator D?
DIODE GEN PURP 400V 3A DO214AB; Manufacturer: Micro Commercial Co; Type: Standard; Current Reverse Leakage @ Vr: 10uA @ 400V; Voltage Forward (Vf): 1.2V @ 3A; Part Number: S3G-TP; PartId: 27718; Supplier 1: Digi-Key; Supplier Part Number 1: S3G-TPMSCT-ND; ComponentLink1Description: Datasheet; ComponentLink1URL: http://www.mccsemi.com/up_pdf/S3A-S3M(DO-214AB).PDF; ComponentLink2Description: Digi-Key Listing; ComponentLink2URL: https://www.digikey.com/product-detail/en/micro-commercial-co/S3G-TP/S3G-TPMSCT-ND/773721; Junction Operating Temperature: -55C ~ 150C; Price: 0.52; Device Package: DO-214AB, SMC; Voltage DC Reverse (Vr): 400V; Current Rectified: 3A
footprint ST DO214AB SMC
pins: 1, 2

## S3GB-13-F
designator D?
DIODE GEN PURP 400V 3A SMB; Manufacturer: Diodes Incorporated; Type: Standard; Current Reverse Leakage @ Vr: 10uA @ 400V; Voltage Forward (Vf): 1.15V @ 3A; Part Number: S3GB-13-F; PartId: 16250; Supplier 1: Digi-Key; Supplier Part Number 1: S3GB-FDITR-ND; ComponentLink1Description: Datasheet; ComponentLink1URL: http://www.diodes.com/_files/datasheets/ds16005.pdf; ComponentLink2Description: Digi-Key Listing; ComponentLink2URL: https://www.digikey.com/product-detail/en/diodes-incorporated/S3GB-13-F/S3GB-FDITR-ND/750066; Junction Operating Temperature: -65C ~ 150C; Price: 0.132; Device Package: DO-214AA, SMB; Voltage DC Reverse (Vr): 400V; Current Rectified: 3A
footprint DO214AA SMB
pins: 1, 2

## S3GTR
designator D?
DIODE GEN PURP 400V 3A SMC; Manufacturer: SMC Diode Solutions; Type: Standard; Current Reverse Leakage @ Vr: 5uA @ 400V; Voltage Forward (Vf): 1.1V @ 3A; Part Number: S3GTR; PartId: 27806; Supplier 1: Digi-Key; Supplier Part Number 1: 1655-1511-1-ND; ComponentLink1Description: Datasheet; ComponentLink1URL: http://www.smc-diodes.com/propdf/S3A-S3M%20N0564%20REV.B.pdf; ComponentLink2Description: Digi-Key Listing; ComponentLink2URL: https://www.digikey.com/product-detail/en/smc-diode-solutions/S3GTR/1655-1511-1-ND/6022956; Junction Operating Temperature: -65C ~ 175C; Price: 0.22; Device Package: DO-214AB, SMC; Voltage DC Reverse (Vr): 400V; Current Rectified: 3A
footprint ST DO214AB SMC
pins: 1, 2

## S3J
designator D?
DIODE GEN PURP 600V 3A SMC; Manufacturer: Fairchild/ON Semiconductor; Type: Standard; Current Reverse Leakage @ Vr: 5uA @ 600V; Reverse Recovery Time (trr): 2.5us; Voltage Forward (Vf): 1.2V @ 3A; Part Number: S3J; PartId: 27714; Supplier 1: Digi-Key; Supplier Part Number 1: S3JFSCT-ND; ComponentLink1Description: Datasheet; ComponentLink1URL: https://www.fairchildsemi.com/datasheets/S3/S3A.pdf; ComponentLink2Description: Digi-Key Listing; ComponentLink2URL: https://www.digikey.com/product-detail/en/fairchild-on-semiconductor/S3J/S3JFSCT-ND/2053164; Junction Operating Temperature: -55C ~ 150C; Price: 0.37; Device Package: DO-214AB, SMC; Voltage DC Reverse (Vr): 600V; Current Rectified: 3A
footprint ST DO214AB SMC
pins: 1, 2

## S3J-13-F
designator D?
DIODE GEN PURP 600V 3A SMC; Manufacturer: Diodes Incorporated; Type: Standard; Current Reverse Leakage @ Vr: 10uA @ 600V; Voltage Forward (Vf): 1.15V @ 3A; Part Number: S3J-13-F; PartId: 16212; Supplier 1: Digi-Key; Supplier Part Number 1: S3J-FDITR-ND; ComponentLink1Description: Datasheet; ComponentLink1URL: http://www.diodes.com/_files/datasheets/ds16005.pdf; ComponentLink2Description: Digi-Key Listing; ComponentLink2URL: https://www.digikey.com/product-detail/en/diodes-incorporated/S3J-13-F/S3J-FDITR-ND/724964; Junction Operating Temperature: -65C ~ 150C; Price: 0.099; Device Package: DO-214AB, SMC; Voltage DC Reverse (Vr): 600V; Current Rectified: 3A
footprint DO214AB SMC
pins: 1, 2

## S3J-E3/57T
designator D?
DIODE GEN PURP 600V 3A DO214AB; Manufacturer: Vishay Semiconductor Diodes Division; Type: Standard; Current Reverse Leakage @ Vr: 10uA @ 600V; Reverse Recovery Time (trr): 2.5us; Voltage Forward (Vf): 1.15V @ 2.5A; Part Number: S3J-E3/57T; PartId: 27813; Supplier 1: Digi-Key; Supplier Part Number 1: S3J-E3/57TGICT-ND; ComponentLink1Description: Datasheet; ComponentLink1URL: http://www.vishay.com/docs/88713/s3a.pdf; ComponentLink2Description: Digi-Key Listing; ComponentLink2URL: https://www.digikey.com/product-detail/en/vishay-semiconductor-diodes-division/S3J-E3-57T/S3J-E3-57TGICT-ND/1091610; Junction Operating Temperature: -55C ~ 150C; Price: 0.41; Device Package: DO-214AB, SMC; Voltage DC Reverse (Vr): 600V; Current Rectified: 3A
footprint ST DO214AB SMC
pins: 1, 2

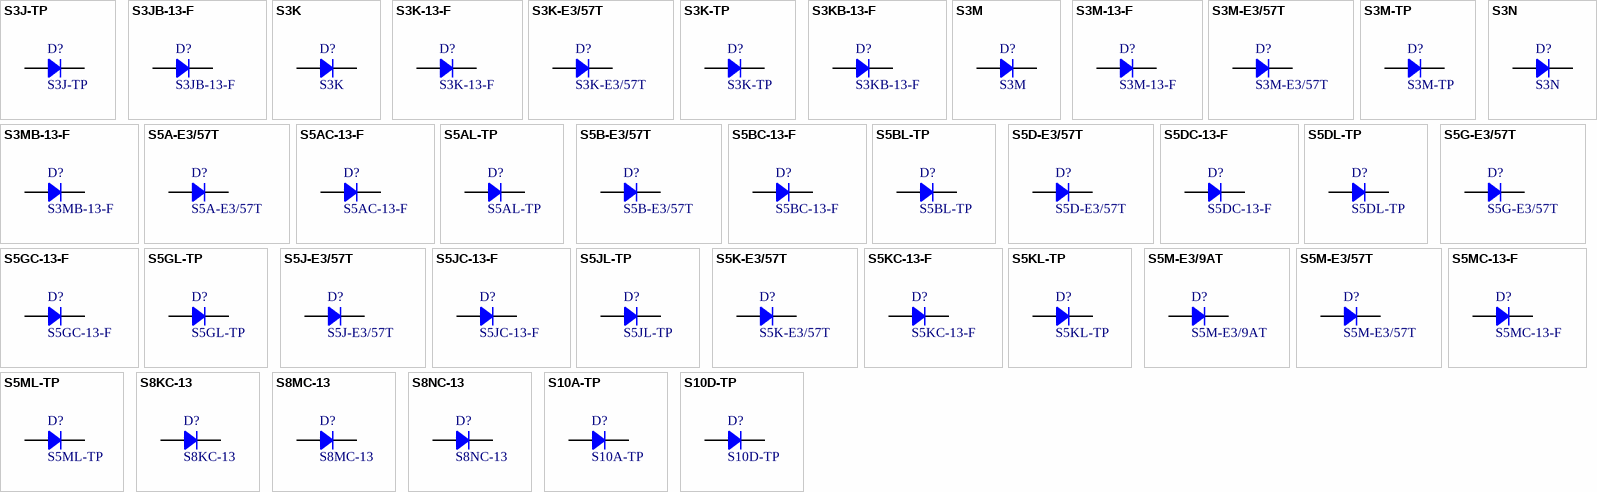
[diagram p14: symbols S3J-TP to S10D-TP]

## S3J-TP
designator D?
DIODE GEN PURP 600V 3A DO214AB; Manufacturer: Micro Commercial Co; Type: Standard; Current Reverse Leakage @ Vr: 10uA @ 600V; Voltage Forward (Vf): 1.2V @ 3A; Part Number: S3J-TP; PartId: 27836; Supplier 1: Digi-Key; Supplier Part Number 1: S3J-TPMSCT-ND; ComponentLink1Description: Datasheet; ComponentLink1URL: http://www.mccsemi.com/up_pdf/S3A-S3M(DO-214AB).PDF; ComponentLink2Description: Digi-Key Listing; ComponentLink2URL: https://www.digikey.com/product-detail/en/micro-commercial-co/S3J-TP/S3J-TPMSCT-ND/773722; Junction Operating Temperature: -55C ~ 150C; Price: 0.52; Device Package: DO-214AB, SMC; Voltage DC Reverse (Vr): 600V; Current Rectified: 3A
footprint ST DO214AB SMC
pins: 1, 2

## S3JB-13-F
designator D?
DIODE GEN PURP 600V 3A SMB; Manufacturer: Diodes Incorporated; Type: Standard; Current Reverse Leakage @ Vr: 10uA @ 600V; Voltage Forward (Vf): 1.15V @ 3A; Part Number: S3JB-13-F; PartId: 16284; Supplier 1: Digi-Key; Supplier Part Number 1: S3JB-FDITR-ND; ComponentLink1Description: Datasheet; ComponentLink1URL: http://www.diodes.com/_files/datasheets/ds16005.pdf; ComponentLink2Description: Digi-Key Listing; ComponentLink2URL: https://www.digikey.com/product-detail/en/diodes-incorporated/S3JB-13-F/S3JB-FDITR-ND/814543; Junction Operating Temperature: -65C ~ 150C; Price: 0.132; Device Package: DO-214AA, SMB; Voltage DC Reverse (Vr): 600V; Current Rectified: 3A
footprint DO214AA SMB
pins: 1, 2

## S3K
designator D?
DIODE GEN PURP 800V 3A SMC; Manufacturer: Fairchild/ON Semiconductor; Type: Standard; Current Reverse Leakage @ Vr: 5uA @ 800V; Reverse Recovery Time (trr): 2.5us; Voltage Forward (Vf): 1.2V @ 3A; Part Number: S3K; PartId: 27891; Supplier 1: Digi-Key; Supplier Part Number 1: S3KFSCT-ND; ComponentLink1Description: Datasheet; ComponentLink1URL: https://www.fairchildsemi.com/datasheets/S3/S3A.pdf; ComponentLink2Description: Digi-Key Listing; ComponentLink2URL: https://www.digikey.com/product-detail/en/fairchild-on-semiconductor/S3K/S3KFSCT-ND/3042701; Junction Operating Temperature: -55C ~ 150C; Price: 0.36; Device Package: DO-214AB, SMC; Voltage DC Reverse (Vr): 800V; Current Rectified: 3A
footprint ST DO214AB SMC
pins: 1, 2

## S3K-13-F
designator D?
DIODE GEN PURP 800V 3A SMC; Manufacturer: Diodes Incorporated; Type: Standard; Current Reverse Leakage @ Vr: 10uA @ 800V; Voltage Forward (Vf): 1.15V @ 3A; Part Number: S3K-13-F; PartId: 16213; Supplier 1: Digi-Key; Supplier Part Number 1: S3K-FDITR-ND; ComponentLink1Description: Datasheet; ComponentLink1URL: http://www.diodes.com/_files/datasheets/ds16005.pdf; ComponentLink2Description: Digi-Key Listing; ComponentLink2URL: https://www.digikey.com/product-detail/en/diodes-incorporated/S3K-13-F/S3K-FDITR-ND/814697; Junction Operating Temperature: -65C ~ 150C; Price: 0.099; Device Package: DO-214AB, SMC; Voltage DC Reverse (Vr): 800V; Current Rectified: 3A
footprint DO214AB SMC
pins: 1, 2

## S3K-E3/57T
designator D?
DIODE GEN PURP 800V 3A DO214AB; Manufacturer: Vishay Semiconductor Diodes Division; Type: Surface Mount; Current Reverse Leakage @ Vr: 10uA @ 800V; Reverse Recovery Time (trr): 2.5us; Voltage Forward (Vf): 1.15V @ 2.5A; Part Number: S3K-E3/57T; PartId: 7137; Supplier 1: Digi-Key; Supplier Part Number 1: S3K-E3/57TGITR-ND; ComponentLink1Description: Datasheet; ComponentLink1URL: http://www.vishay.com/docs/88713/s3a.pdf; ComponentLink2Description: Digi-Key Listing; ComponentLink2URL: http://www.digikey.ca/product-detail/en/S3K-E3%2F57T/S3K-E3%2F57TGITR-ND/1119083; Junction Operating Temperature: -55C ~ 150C; Price: 0.2385; Device Package: DO-214AB, SMC; Voltage DC Reverse (Vr): 800V; Current Rectified: 3A
footprint DO214AB SMC
pins: 1, 2

## S3K-TP
designator D?
DIODE GEN PURP 800V 3A DO214AB; Manufacturer: Micro Commercial Co; Type: Standard; Current Reverse Leakage @ Vr: 10uA @ 800V; Voltage Forward (Vf): 1.2V @ 3A; Part Number: S3K-TP; PartId: 27835; Supplier 1: Digi-Key; Supplier Part Number 1: S3K-TPMSCT-ND; ComponentLink1Description: Datasheet; ComponentLink1URL: http://www.mccsemi.com/up_pdf/S3A-S3M(DO-214AB).PDF; ComponentLink2Description: Digi-Key Listing; ComponentLink2URL: https://www.digikey.com/product-detail/en/micro-commercial-co/S3K-TP/S3K-TPMSCT-ND/773723; Junction Operating Temperature: -55C ~ 150C; Price: 0.52; Device Package: DO-214AB, SMC; Voltage DC Reverse (Vr): 800V; Current Rectified: 3A
footprint ST DO214AB SMC
pins: 1, 2

## S3KB-13-F
designator D?
DIODE GEN PURP 800V 3A SMB; Manufacturer: Diodes Incorporated; Type: Standard; Current Reverse Leakage @ Vr: 10uA @ 800V; Voltage Forward (Vf): 1.15V @ 3A; Part Number: S3KB-13-F; PartId: 16302; Supplier 1: Digi-Key; Supplier Part Number 1: S3KB-FDITR-ND; ComponentLink1Description: Datasheet; ComponentLink1URL: http://www.diodes.com/_files/datasheets/ds16005.pdf; ComponentLink2Description: Digi-Key Listing; ComponentLink2URL: https://www.digikey.com/product-detail/en/diodes-incorporated/S3KB-13-F/S3KB-FDITR-ND/814581; Junction Operating Temperature: -65C ~ 150C; Price: 0.132; Device Package: DO-214AA, SMB; Voltage DC Reverse (Vr): 800V; Current Rectified: 3A
footprint DO214AA SMB
pins: 1, 2

## S3M
designator D?
DIODE GEN PURP 1KV 3A SMC; Manufacturer: Fairchild/ON Semiconductor; Type: Standard; Current Reverse Leakage @ Vr: 5uA @ 1000V; Reverse Recovery Time (trr): 2.5us; Voltage DC Reverse (Vr): 1000V (1kV); Voltage Forward (Vf): 1.2V @ 3A; Part Number: S3M; PartId: 27680; Supplier 1: Digi-Key; Supplier Part Number 1: S3MFSCT-ND; ComponentLink1Description: Datasheet; ComponentLink1URL: https://www.fairchildsemi.com/datasheets/S3/S3A.pdf; ComponentLink2Description: Digi-Key Listing; ComponentLink2URL: https://www.digikey.com/product-detail/en/fairchild-on-semiconductor/S3M/S3MFSCT-ND/2053165; Junction Operating Temperature: -55C ~ 150C; Price: 0.35; Device Package: DO-214AB, SMC; Current Rectified: 3A
footprint ST DO214AB SMC
pins: 1, 2

## S3M-13-F
designator D?
DIODE GEN PURP 1KV 3A SMC; Manufacturer: Diodes Incorporated; Type: Standard; Current Reverse Leakage @ Vr: 10uA @ 1000V; Voltage DC Reverse (Vr): 1000V (1kV); Voltage Forward (Vf): 1.15V @ 3A; Part Number: S3M-13-F; PartId: 16215; Supplier 1: Digi-Key; Supplier Part Number 1: S3M-FDITR-ND; ComponentLink1Description: Datasheet; ComponentLink1URL: http://www.diodes.com/_files/datasheets/ds16005.pdf; ComponentLink2Description: Digi-Key Listing; ComponentLink2URL: https://www.digikey.com/product-detail/en/diodes-incorporated/S3M-13-F/S3M-FDITR-ND/725029; Junction Operating Temperature: -65C ~ 150C; Price: 0.132; Device Package: DO-214AB, SMC; Current Rectified: 3A
footprint DO214AB SMC
pins: 1, 2

## S3M-E3/57T
designator D?
DIODE GEN PURP 1KV 3A DO214AB; Manufacturer: Vishay Semiconductor Diodes Division; Type: Standard; Current Reverse Leakage @ Vr: 10uA @ 1000V; Reverse Recovery Time (trr): 2.5us; Voltage DC Reverse (Vr): 1000V (1kV); Voltage Forward (Vf): 1.15V @ 2.5A; Part Number: S3M-E3/57T; PartId: 27728; Supplier 1: Digi-Key; Supplier Part Number 1: S3M-E3/57TGICT-ND; ComponentLink1Description: Datasheet; ComponentLink1URL: http://www.vishay.com/docs/88713/s3a.pdf; ComponentLink2Description: Digi-Key Listing; ComponentLink2URL: https://www.digikey.com/product-detail/en/vishay-semiconductor-diodes-division/S3M-E3-57T/S3M-E3-57TGICT-ND/1091611; Junction Operating Temperature: -55C ~ 150C; Price: 0.41; Device Package: DO-214AB, SMC; Current Rectified: 3A
footprint ST DO214AB SMC
pins: 1, 2

## S3M-TP
designator D?
DIODE GEN PURP 1KV 3A DO214AB; Manufacturer: Micro Commercial Co; Type: Standard; Current Reverse Leakage @ Vr: 10uA @ 1000V; Voltage DC Reverse (Vr): 1000V (1kV); Voltage Forward (Vf): 1.2V @ 3A; Part Number: S3M-TP; PartId: 27801; Supplier 1: Digi-Key; Supplier Part Number 1: S3M-TPMSCT-ND; ComponentLink1Description: Datasheet; ComponentLink1URL: http://www.mccsemi.com/up_pdf/S3A-S3M(DO-214AB).PDF; ComponentLink2Description: Digi-Key Listing; ComponentLink2URL: https://www.digikey.com/product-detail/en/micro-commercial-co/S3M-TP/S3M-TPMSCT-ND/773724; Junction Operating Temperature: -55C ~ 150C; Price: 0.52; Device Package: DO-214AB, SMC; Current Rectified: 3A
footprint ST DO214AB SMC
pins: 1, 2

## S3MB-13-F
designator D?
DIODE GEN PURP 1KV 3A SMB; Manufacturer: Diodes Incorporated; Type: Standard; Current Reverse Leakage @ Vr: 10uA @ 1000V; Voltage DC Reverse (Vr): 1000V (1kV); Voltage Forward (Vf): 1.15V @ 3A; Part Number: S3MB-13-F; PartId: 16251; Supplier 1: Digi-Key; Supplier Part Number 1: S3MB-FDITR-ND; ComponentLink1Description: Datasheet; ComponentLink1URL: http://www.diodes.com/_files/datasheets/ds16005.pdf; ComponentLink2Description: Digi-Key Listing; ComponentLink2URL: https://www.digikey.com/product-detail/en/diodes-incorporated/S3MB-13-F/S3MB-FDITR-ND/755456; Junction Operating Temperature: -65C ~ 150C; Price: 0.132; Device Package: DO-214AA, SMB; Current Rectified: 3A
footprint DO214AA SMB
pins: 1, 2

## S3N
designator D?
DIODE GEN PURP 1.2KV 3A SMC; Manufacturer: Fairchild/ON Semiconductor; Type: Standard; Current Reverse Leakage @ Vr: 5uA @ 1200V; Reverse Recovery Time (trr): 2.5us; Voltage DC Reverse (Vr): 1200V (1.2kV); Voltage Forward (Vf): 1.2V @ 3A; Part Number: S3N; PartId: 27719; Supplier 1: Digi-Key; Supplier Part Number 1: S3NCT-ND; ComponentLink1Description: Datasheet; ComponentLink1URL: https://www.fairchildsemi.com/datasheets/S3/S3N.pdf; ComponentLink2Description: Digi-Key Listing; ComponentLink2URL: https://www.digikey.com/product-detail/en/fairchild-on-semiconductor/S3N/S3NCT-ND/3907954; Junction Operating Temperature: -55C ~ 150C; Price: 0.47; Device Package: DO-214AB, SMC; Current Rectified: 3A
footprint ST DO214AB SMC
pins: 1, 2

## S5A-E3/57T
designator D?
DIODE GEN PURP 50V 5A DO214AB; Manufacturer: Vishay Semiconductor Diodes Division; Type: Standard; Current Reverse Leakage @ Vr: 10uA @ 50V; Reverse Recovery Time (trr): 2.5us; Voltage Forward (Vf): 1.15V @ 5A; Part Number: S5A-E3/57T; PartId: 27777; Supplier 1: Digi-Key; Supplier Part Number 1: S5A-E3/57TGICT-ND; ComponentLink1Description: Datasheet; ComponentLink1URL: http://www.vishay.com/docs/88931/s5a.pdf; ComponentLink2Description: Digi-Key Listing; ComponentLink2URL: https://www.digikey.com/product-detail/en/vishay-semiconductor-diodes-division/S5A-E3-57T/S5A-E3-57TGICT-ND/3646220; Junction Operating Temperature: -55C ~ 150C; Price: 0.45; Device Package: DO-214AB, SMC; Voltage DC Reverse (Vr): 50V; Current Rectified: 5A
footprint ST DO214AB SMC
pins: 1, 2

## S5AC-13-F
designator D?
DIODE GEN PURP 50V 5A SMC; Manufacturer: Diodes Incorporated; Type: Standard; Current Reverse Leakage @ Vr: 10uA @ 50V; Voltage Forward (Vf): 1.15V @ 5A; Part Number: S5AC-13-F; PartId: 16196; Supplier 1: Digi-Key; Supplier Part Number 1: S5AC-FDITR-ND; ComponentLink1Description: Datasheet; ComponentLink1URL: http://www.diodes.com/_files/datasheets/ds16007.pdf; ComponentLink2Description: Digi-Key Listing; ComponentLink2URL: https://www.digikey.com/product-detail/en/diodes-incorporated/S5AC-13-F/S5AC-FDITR-ND/770116; Junction Operating Temperature: -65C ~ 150C; Price: 0.132; Device Package: DO-214AB, SMC; Voltage DC Reverse (Vr): 50V; Current Rectified: 5A
footprint DO214AB SMC
pins: 1, 2

## S5AL-TP
designator D?
DIODE GEN PURP 50V 5A DO214AB; Manufacturer: Micro Commercial Co; Type: Standard; Current Reverse Leakage @ Vr: 10uA @ 50V; Voltage Forward (Vf): 1.2V @ 5A; Part Number: S5AL-TP; PartId: 27823; Supplier 1: Digi-Key; Supplier Part Number 1: S5AL-TPMSCT-ND; ComponentLink1Description: Datasheet; ComponentLink1URL: http://www.mccsemi.com/up_pdf/S5AL~S5ML(SMC).PDF; ComponentLink2Description: Digi-Key Listing; ComponentLink2URL: https://www.digikey.com/product-detail/en/micro-commercial-co/S5AL-TP/S5AL-TPMSCT-ND/4966293; Junction Operating Temperature: -55C ~ 150C; Price: 0.49; Device Package: DO-214AB, SMC; Voltage DC Reverse (Vr): 50V; Current Rectified: 5A
footprint ST DO214AB SMC
pins: 1, 2

## S5B-E3/57T
designator D?
DIODE GEN PURP 100V 5A DO214AB; Manufacturer: Vishay Semiconductor Diodes Division; Type: Standard; Current Reverse Leakage @ Vr: 10uA @ 100V; Reverse Recovery Time (trr): 2.5us; Voltage Forward (Vf): 1.15V @ 5A; Part Number: S5B-E3/57T; PartId: 27740; Supplier 1: Digi-Key; Supplier Part Number 1: S5B-E3/57TGICT-ND; ComponentLink1Description: Datasheet; ComponentLink1URL: http://www.vishay.com/docs/88931/s5a.pdf; ComponentLink2Description: Digi-Key Listing; ComponentLink2URL: https://www.digikey.com/product-detail/en/vishay-semiconductor-diodes-division/S5B-E3-57T/S5B-E3-57TGICT-ND/3711855; Junction Operating Temperature: -55C ~ 150C; Price: 0.45; Device Package: DO-214AB, SMC; Voltage DC Reverse (Vr): 100V; Current Rectified: 5A
footprint ST DO214AB SMC
pins: 1, 2

## S5BC-13-F
designator D?
DIODE GEN PURP 100V 5A SMC; Manufacturer: Diodes Incorporated; Type: Standard; Current Reverse Leakage @ Vr: 10uA @ 100V; Voltage Forward (Vf): 1.15V @ 5A; Part Number: S5BC-13-F; PartId: 16195; Supplier 1: Digi-Key; Supplier Part Number 1: S5BC-FDITR-ND; ComponentLink1Description: Datasheet; ComponentLink1URL: http://www.diodes.com/_files/datasheets/ds16007.pdf; ComponentLink2Description: Digi-Key Listing; ComponentLink2URL: https://www.digikey.com/product-detail/en/diodes-incorporated/S5BC-13-F/S5BC-FDITR-ND/775743; Junction Operating Temperature: -65C ~ 150C; Price: 0.132; Device Package: DO-214AB, SMC; Voltage DC Reverse (Vr): 100V; Current Rectified: 5A
footprint DO214AB SMC
pins: 1, 2

## S5BL-TP
designator D?
DIODE GEN PURP 100V 5A DO214AB; Manufacturer: Micro Commercial Co; Type: Standard; Current Reverse Leakage @ Vr: 10uA @ 100V; Voltage Forward (Vf): 1.2V @ 5A; Part Number: S5BL-TP; PartId: 27802; Supplier 1: Digi-Key; Supplier Part Number 1: S5BL-TPMSCT-ND; ComponentLink1Description: Datasheet; ComponentLink1URL: http://www.mccsemi.com/up_pdf/S5AL~S5ML(SMC).PDF; ComponentLink2Description: Digi-Key Listing; ComponentLink2URL: https://www.digikey.com/product-detail/en/micro-commercial-co/S5BL-TP/S5BL-TPMSCT-ND/4966294; Junction Operating Temperature: -55C ~ 150C; Price: 0.49; Device Package: DO-214AB, SMC; Voltage DC Reverse (Vr): 100V; Current Rectified: 5A
footprint ST DO214AB SMC
pins: 1, 2

## S5D-E3/57T
designator D?
DIODE GEN PURP 200V 5A DO214AB; Manufacturer: Vishay Semiconductor Diodes Division; Type: Standard; Current Reverse Leakage @ Vr: 10uA @ 200V; Reverse Recovery Time (trr): 2.5us; Voltage Forward (Vf): 1.15V @ 5A; Part Number: S5D-E3/57T; PartId: 27898; Supplier 1: Digi-Key; Supplier Part Number 1: S5D-E3/57TGICT-ND; ComponentLink1Description: Datasheet; ComponentLink1URL: http://www.vishay.com/docs/88931/s5a.pdf; ComponentLink2Description: Digi-Key Listing; ComponentLink2URL: https://www.digikey.com/product-detail/en/vishay-semiconductor-diodes-division/S5D-E3-57T/S5D-E3-57TGICT-ND/1091612; Junction Operating Temperature: -55C ~ 150C; Price: 0.45; Device Package: DO-214AB, SMC; Voltage DC Reverse (Vr): 200V; Current Rectified: 5A
footprint ST DO214AB SMC
pins: 1, 2

## S5DC-13-F
designator D?
DIODE GEN PURP 200V 5A SMC; Manufacturer: Diodes Incorporated; Type: Standard; Current Reverse Leakage @ Vr: 10uA @ 200V; Voltage Forward (Vf): 1.15V @ 5A; Part Number: S5DC-13-F; PartId: 16198; Supplier 1: Digi-Key; Supplier Part Number 1: S5DC-FDITR-ND; ComponentLink1Description: Datasheet; ComponentLink1URL: http://www.diodes.com/_files/datasheets/ds16007.pdf; ComponentLink2Description: Digi-Key Listing; ComponentLink2URL: https://www.digikey.com/product-detail/en/diodes-incorporated/S5DC-13-F/S5DC-FDITR-ND/775744; Junction Operating Temperature: -65C ~ 150C; Price: 0.155; Device Package: DO-214AB, SMC; Voltage DC Reverse (Vr): 200V; Current Rectified: 5A
footprint DO214AB SMC
pins: 1, 2

## S5DL-TP
designator D?
DIODE GEN PURP 200V 5A DO214AB; Manufacturer: Micro Commercial Co; Type: Standard; Current Reverse Leakage @ Vr: 10uA @ 200V; Voltage Forward (Vf): 1.2V @ 5A; Part Number: S5DL-TP; PartId: 27803; Supplier 1: Digi-Key; Supplier Part Number 1: S5DL-TPMSCT-ND; ComponentLink1Description: Datasheet; ComponentLink1URL: http://www.mccsemi.com/up_pdf/S5AL~S5ML(SMC).PDF; ComponentLink2Description: Digi-Key Listing; ComponentLink2URL: https://www.digikey.com/product-detail/en/micro-commercial-co/S5DL-TP/S5DL-TPMSCT-ND/4966295; Junction Operating Temperature: -55C ~ 150C; Price: 0.49; Device Package: DO-214AB, SMC; Voltage DC Reverse (Vr): 200V; Current Rectified: 5A
footprint ST DO214AB SMC
pins: 1, 2

## S5G-E3/57T
designator D?
DIODE GEN PURP 400V 5A DO214AB; Manufacturer: Vishay Semiconductor Diodes Division; Type: Standard; Current Reverse Leakage @ Vr: 10uA @ 400V; Reverse Recovery Time (trr): 2.5us; Voltage Forward (Vf): 1.15V @ 5A; Part Number: S5G-E3/57T; PartId: 27778; Supplier 1: Digi-Key; Supplier Part Number 1: S5G-E3/57TGICT-ND; ComponentLink1Description: Datasheet; ComponentLink1URL: http://www.vishay.com/docs/88931/s5a.pdf; ComponentLink2Description: Digi-Key Listing; ComponentLink2URL: https://www.digikey.com/product-detail/en/vishay-semiconductor-diodes-division/S5G-E3-57T/S5G-E3-57TGICT-ND/1091613; Junction Operating Temperature: -55C ~ 150C; Price: 0.45; Device Package: DO-214AB, SMC; Voltage DC Reverse (Vr): 400V; Current Rectified: 5A
footprint ST DO214AB SMC
pins: 1, 2